# Altium footprint library All.PcbLib: 17 footprints (part 2 of 2)
Each footprint in its own frame and in the unit in brackets; x right, y up, seen from the top. Pads: shape width x height; smd on the part's side, far side on the other; paste and mask are expansions set on the pad; w line width, h text height; cw(c..) or ccw(c..) is an arc to the next point about the centre after c.
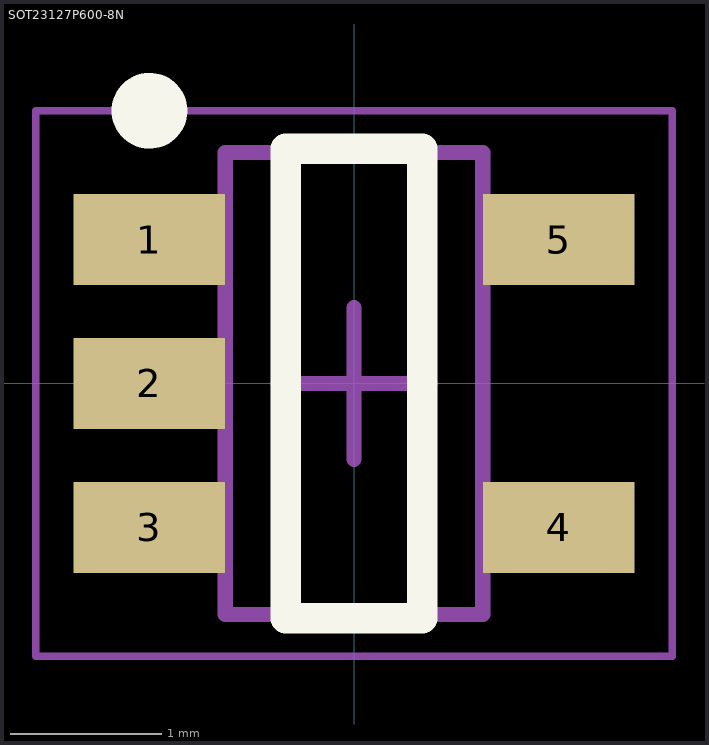
[diagram p1: the footprint, top view; thin cyan lines are the x and y axes]

## SOT23127P600-8N [mm] "SOT23-5L LD2981"
height 1.45
pads (5):
  rect 1x0.6 smd: 1(-1.35,0.95) 2(-1.35,0) 3(-1.35,-0.95) 4(1.35,-0.95) 5(1.35,0.95)
Top Overlay:
  circle w0.25: c-1.35,1.8 r0.125
  lines w0.2: -0.45,-1.55 0.45,-1.55 0.45,1.55 -0.45,1.55 -0.45,-1.55
Top Assembly:
  lines w0.1: -0.85,-1.525 -0.85,1.525 0.85,1.525 0.85,-1.525 -0.85,-1.525
Top Courtyard:
  lines w0.05: -2.1,-1.8 -2.1,1.8 2.1,1.8 2.1,-1.8 -2.1,-1.8
  lines w0.1: -0.5,0 0.5,0 ; 0,-0.5 0,0.5
3D body "SOT23127P600-8N.step": height 1.45, standoff 0, extent -1.5,-1.525 1.5,1.525